# Altium schematic symbol library ADR02BUJZ.Schlib: 1 symbol
Pins are listed as number, name and electrical type; pins without a type are passive.

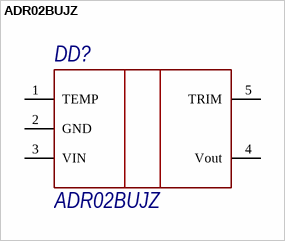
[diagram p0: symbol ADR02BUJZ]

## ADR02BUJZ
designator DD?
Источник опорного напряжения, 5В
pins: 1 TEMP, 2 GND, 3 VIN, 4 Vout, 5 TRIM